# EAGLE library part 108-1MD1T1B1M2QE-EVX (library mountain-switch)
Toggle Switch, DPDT, 13 x 11.5mm
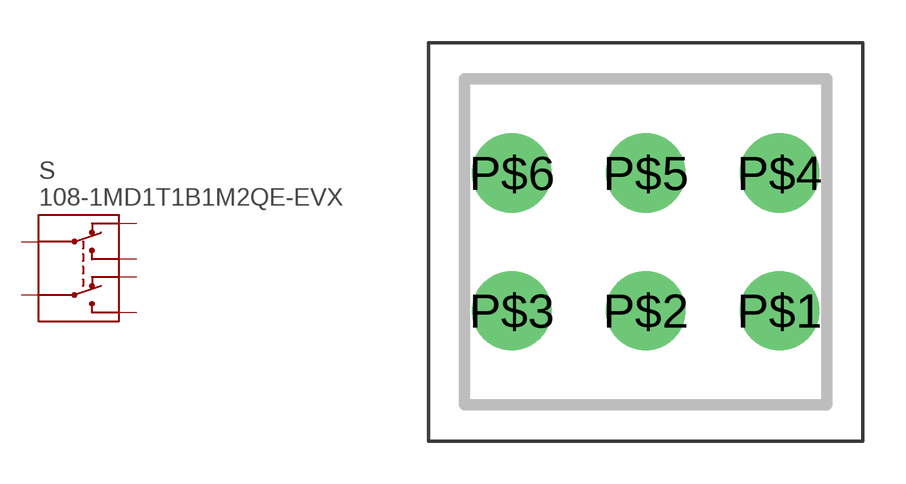
[diagram p0: symbol with the pads of 108-1MD1T1B1M2QE-EVX; footprint 108-1MD1T1B1M2QE-EVX]

Designator prefix S

## 108-1MD1T1B1M2QE-EVX  [108-1MD1T1B1M2QE-EVX]
P$1  1
P$2  2
P$3  3
P$4  4
P$5  5
P$6  6

## Footprint 108-1MD1T1B1M2QE-EVX (pad centres in mm)
drill 1.85: P$1 4.7,-2.415; P$2 0,-2.415; P$3 -4.7,-2.415; P$4 4.7,2.415; P$5 0,2.415; P$6 -4.7,2.415